# EAGLE library part ROTENC (library rot_encoder)
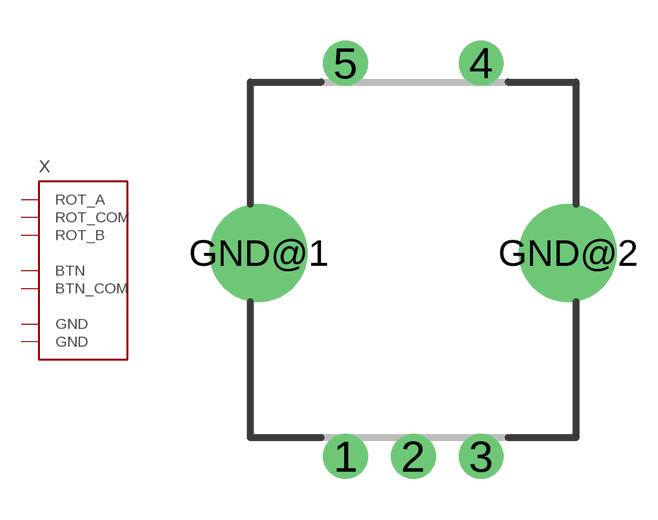
[diagram p0: symbol with the pads of HOLE; footprint HOLE]

Designator prefix X

## ROTENC  [HOLE]
1  ROT_A
2  ROT_COM
3  ROT_B
4  BTN
5  BTN_COM
GND@1  GND
GND@2  GND

## Footprint HOLE (pad centres in mm)
drill 1.1 round: 1 -2.5,-7.5; 2 0,-7.5; 3 2.5,-7.5; 4 2.5,7; 5 -2.5,7
drill 2.6 round: GND@1 -5.7,0; GND@2 5.7,0